# Altium footprint library tiny200r3.PcbLib: 25 footprints (part 2 of 2)
Each footprint in its own frame and in the unit in brackets; x right, y up, seen from the top. Pads: shape width x height; smd on the part's side, far side on the other; paste and mask are expansions set on the pad; w line width, h text height; cw(c..) or ccw(c..) is an arc to the next point about the centre after c.
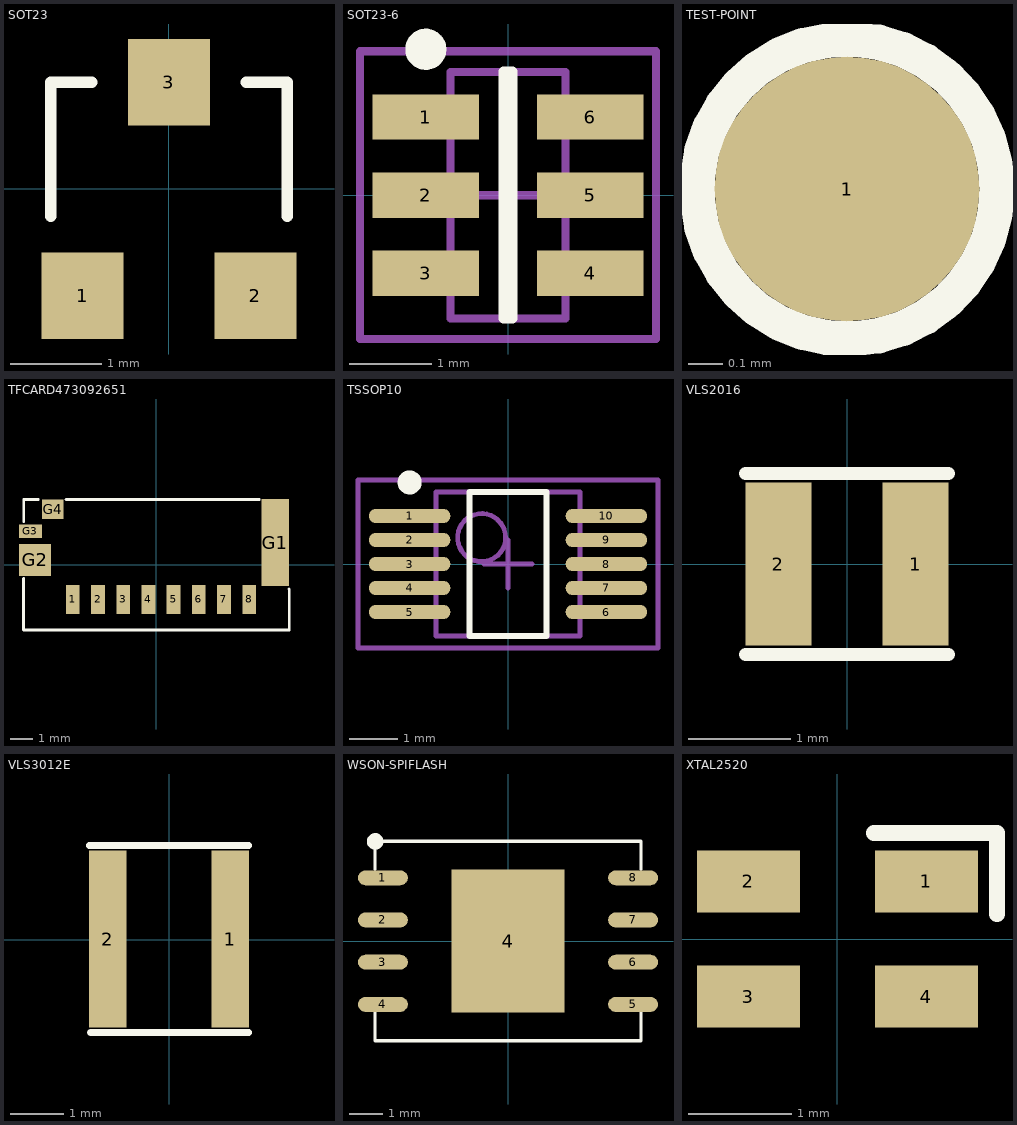
[diagram p1: the footprints below, top view; thin cyan lines are the x and y axes]

## SOT23 [mm] "SOT-23; 3 Leads; Body 3.0 x 2.5 mm, inc. leads (LxW max)"
height 1.2
pads (3):
  rect 0.9x0.95 smd: 1(-0.95,-1.175) 2(0.95,-1.175) 3(0,1.175)
Top Overlay:
  lines w0.127: -1.3,-0.3 -1.3,1.175 -0.85,1.175 ; 0.85,1.175 1.3,1.175 1.3,-0.3

## SOT23-6 [mm] "SOT23, 5-Leads, Body 3.0x2.6mm (max), Pitch 0.95mm, IPC Medium Density"
height 1.1
pads (6):
  rect 1.3x0.55 smd: 1(-1,0.95) 2(-1,0) 3(-1,-0.95) 4(1,-0.95) 5(1,0) 6(1,0.95)
Top Overlay:
  circle w0.25: c-1,1.775 r0.125
  lines w0.127: -0.05,-1.5 -0.05,1.5 0.05,1.5 0.05,-1.5 -0.05,-1.5
Mechanical 13:
  lines w0.1: -0.7,-1.5 0.7,-1.5 0.7,1.5 -0.7,1.5 -0.7,-1.5
Mechanical 15:
  lines w0.1: -0.5,0 0.5,0 ; 0,-0.5 0,0.5 ; -1.8,-1.75 1.8,-1.75 1.8,1.75 -1.8,1.75 -1.8,-1.75
3D body: height 1.1, standoff 0.05, extent -0.7,-1.5 0.7,1.5

## TEST-POINT [mil]
height 324
pads (1):
  round 30 smd paste-15.75: 1(0,0)
Top Overlay:
  circle w4: c0,0 r17

## TFCARD473092651 [mm] "TFCARD473092651"
height 1.2
pads (12):
  rect 0.6x1.25 smd: 1(-3.65,-1.525) 2(-2.55,-1.525) 3(-1.45,-1.525) 4(-0.35,-1.525) 5(0.75,-1.525) 6(1.85,-1.525) 7(2.95,-1.525) 8(4.05,-1.525)
  rect 1.2x3.8 smd: G1(5.2,0.96)
  rect 1.4x1.4 smd: G2(-5.3,0.2)
  rect 1x0.6 smd: G3(-5.5,1.45)
  rect 0.95x0.85 smd: G4(-4.525,2.425)
Top Overlay:
  lines w0.127: -5.795,-0.615 -5.8,-0.621 -5.8,-2.85 5.8,-2.85 5.8,-1.084 5.788,-1.072 ; -5.795,1.874 -5.795,2.839 -5.16,2.839 ; -3.94,2.839 4.492,2.839

## TSSOP10 [mm] "TSSOP, 10-Leads, Body 3.0x3.0mm (max), Pitch 0.50mm, IPC Medium Density"
height 1.1
pads (10):
  oval 1.7x0.3 smd: 1(-2.05,1) 2(-2.05,0.5) 3(-2.05,0) 4(-2.05,-0.5) 5(-2.05,-1) 6(2.05,-1) 7(2.05,-0.5) 8(2.05,0) 9(2.05,0.5) 10(2.05,1)
Top Overlay:
  circle w0.25: c-2.05,1.7 r0.125
  lines w0.127: -0.8,-1.5 -0.8,1.5 0.8,1.5 0.8,-1.5 -0.8,-1.5
Mechanical 13:
  circle w0.1: c-0.55,0.55 r0.5
  lines w0.1: -1.5,-1.5 -1.5,1.5 1.5,1.5 1.5,-1.5 -1.5,-1.5
Mechanical 15:
  lines w0.1: -0.5,0 0.5,0 ; 0,-0.5 0,0.5 ; -3.125,-1.75 -3.125,1.75 3.125,1.75 3.125,-1.75 -3.125,-1.75
3D body: height 1.1, standoff 0.15, extent -1.5,-1.5 1.5,1.5

## VLS2016 [mm]
height 2
pads (2):
  rect 0.65x1.6 smd: 1(0.675,0) 2(-0.675,0)
Top Overlay:
  lines w0.127: -1,-0.889 1,-0.889 ; -1,0.889 1,0.889

## VLS3012E [mil]
height 70.87
pads (2):
  rect 27.56x131.1 smd: 1(45.28,0.5) 2(-45.28,0.5)
Top Overlay:
  lines w5: -59,69.5 59,69.5 ; -58,-68.5 59,-68.5

## WSON-SPIFLASH [mm]
height 2
pads (9):
  oval 1.5x0.45 smd: 1(-3.764,1.905) 2(-3.764,0.635) 3(-3.764,-0.635) 4(-3.764,-1.905) 5(3.764,-1.905) 6(3.764,-0.635) 7(3.764,0.635) 8(3.764,1.905)
  rect 3.4x4.3 smd: 4(0,0)
Top Overlay:
  circle w0.25: c-3.998,3 r0.125
  lines w0.1: -4,-2.159 -4,-3 4,-3 4,-2.159 ; -4,2.159 -4,3 4,3 4,2.159
Mechanical 15:
  lines w0.1: -0.5,0 0.5,0 ; 0,-0.5 0,0.5

## XTAL2520 [mil] "XTAL2520"
pads (4):
  rect 39.37x23.62 smd: 1(34,22) 2(-34,22) 3(-34,-22) 4(34,-22)
Top Overlay:
  lines w6: 14,40.5 61,40.5 61,9.5